# Altium schematic symbol library PTC-1206.SchLib: 1 symbol
Pins are listed as number, name and electrical type; pins without a type are passive.

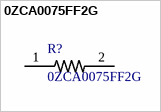
[diagram p0: symbol 0ZCA0075FF2G]

## 0ZCA0075FF2G
designator R?
PTC Resettable Fuse 0.75A_hold_ 1.5A_trip_ 6VDC 100A 0.6W 0.2s 0.09Ohm SMD Solder Pad 1206 T/R; MF: Bel Fuse; Package: 1206 Bel Fuse; Availability: Unavailable; MP: 0ZCA0075FF2G; Price: None; SnapEDA_Link: https://www.snapeda.com/parts/0ZCA0075FF2G/Bel%20Fuse%20Inc./view-part/?ref=snap; Value: *
footprint RESC3216X125N
pins: 1, 2